# Altium footprint library TS-101-T-A.PcbLib: 1 footprints
Each footprint in its own frame and in the unit in brackets; x right, y up, seen from the top. Pads: shape width x height; smd on the part's side, far side on the other; paste and mask are expansions set on the pad; w line width, h text height; cw(c..) or ccw(c..) is an arc to the next point about the centre after c.
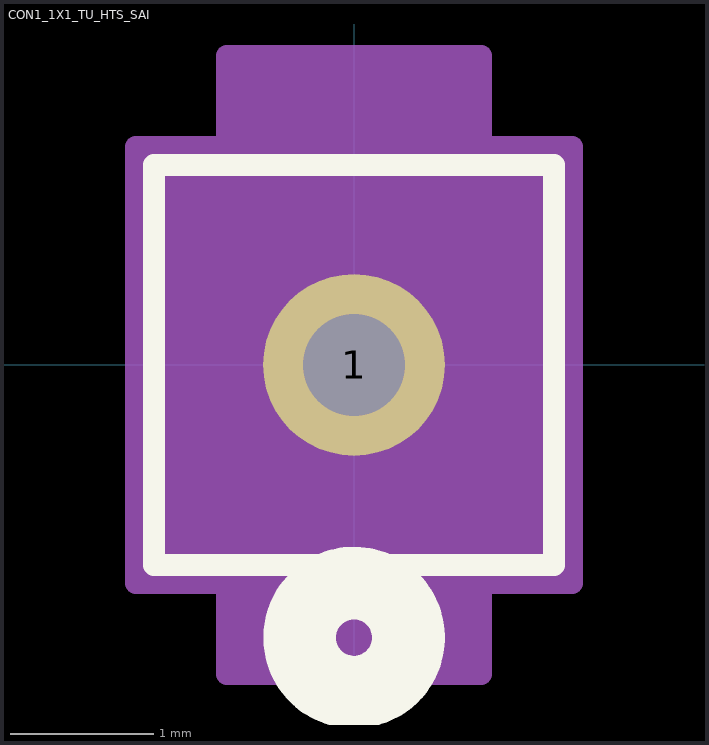
[diagram p0: the footprint, top view; thin cyan lines are the x and y axes]

## CON1_1X1_TU_HTS_SAI [mil]
pads (1):
  round 50 / inner round 60 / far side round 50 hole 28 paste-25 mask+0: 1(0,0)
Top Overlay:
  circle w20: c0,-75 r15
  lines w6: -55,-55 55,-55 55,55 -55,55 -55,-55
Bottom Overlay:
  circle w20: c0,-75 r15
Mechanical 13:
  circle w0: c0,0 r10
  lines w1: -50,-50 50,-50 50,50 -50,50 -50,-50
Mechanical 15:
  region: 60,60 35,60 35,85 -35,85 -35,60 -60,60 -60,-60 -35,-60 -35,-85 35,-85 35,-60 60,-60
  lines w6: -60,-60 -60,60 -35,60 -35,85 35,85 35,60 60,60 60,-60 35,-60 35,-85 -35,-85 -35,-60 -60,-60